# EAGLE library part TPS2044B (library IC)
TI Quad Power Distribution Switch,Digi-Key Part Number 296-26909-1-ND,Manufacturer Part Number TPS2044BDR,Current Limit 1A,Voltage - Input 2.7 V ~ 5.5 V,Operating Temperature -40°C ~ 85°C, Mounting Type Surface Mount, Package / Case 16-SOIC (0.154", 3.90mm Width)
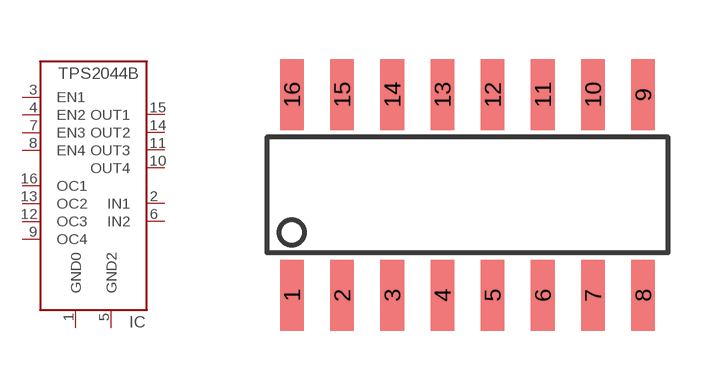
[diagram p197: symbol with the pads of SOIC16; footprint SOIC16]

Designator prefix IC

## TPS2044B  [SOIC16]
1  GND0
2  IN1
3  EN1
4  EN2
5  GND2
6  IN2
7  EN3
8  EN4
9  OC4
10  OUT4
11  OUT3
12  OC3
13  OC2
14  OUT2
15  OUT1
16  OC1

## Footprint SOIC16 (pad centres in mm)
SOIC-16, 1.27mm pitch, 6.2mm width, 10.0mm length
smd 0.6 x 1.8: 1 -3.81,-2.54; 2 -2.54,-2.54; 3 -1.27,-2.54; 4 0,-2.54; 5 1.27,-2.54; 6 2.54,-2.54; 7 3.81,-2.54; 8 5.08,-2.54; 9 5.08,2.54; 10 3.81,2.54; 11 2.54,2.54; 12 1.27,2.54; 13 0,2.54; 14 -1.27,2.54; 15 -2.54,2.54; 16 -3.81,2.54